# Altium footprint library Bourns.PcbLib: 5 footprints
Each footprint in its own frame and in the unit in brackets; x right, y up, seen from the top. Pads: shape width x height; smd on the part's side, far side on the other; paste and mask are expansions set on the pad; w line width, h text height; cw(c..) or ccw(c..) is an arc to the next point about the centre after c.
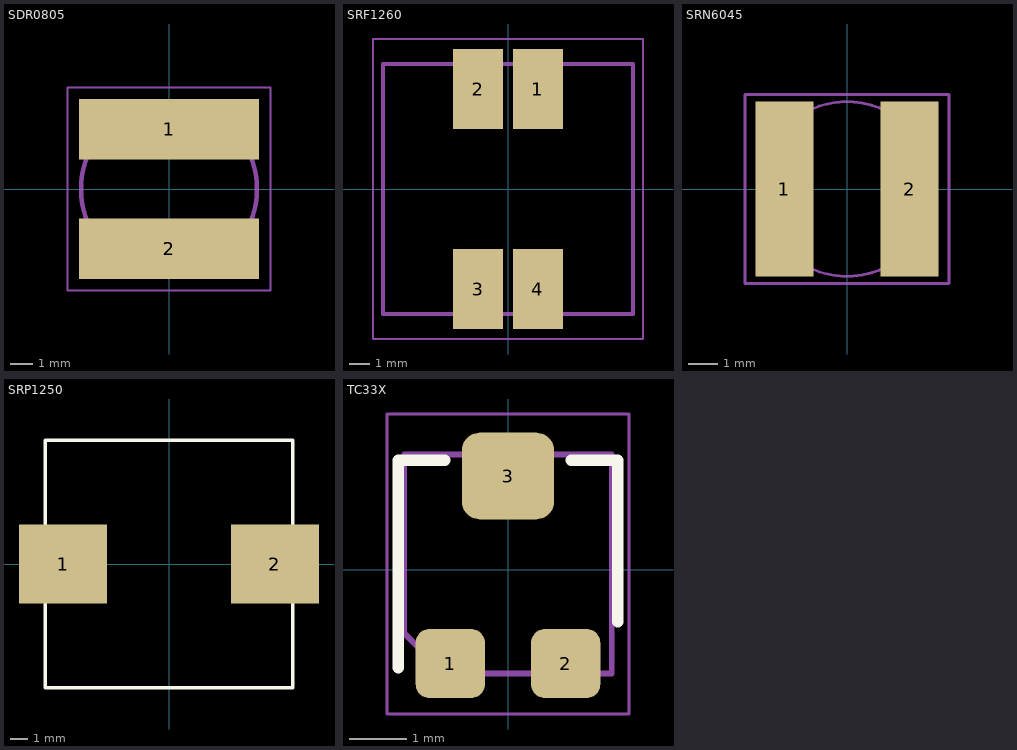
[diagram p0: the footprints below, top view; thin cyan lines are the x and y axes]

## SDR0805 [mm] "Surface-mount Inductor"
height 5.3
pads (2):
  rect 8x2.7 smd: 1(0,2.65) 2(0,-2.65)
Assembly:
  circle w0.2: c0,0 r3.9
Courtyard:
  lines w0.1: -4.5,-4.5 4.5,-4.5 4.5,4.5 -4.5,4.5 -4.5,-4.5
3D body: height 5.3, standoff 0, extent -3.869,-3.892 3.9,3.892

## SRF1260 [mm]
pads (4):
  rect 2.5x4 smd: 1(1.5,5) 2(-1.5,5) 3(-1.5,-5) 4(1.5,-5)
Assembly:
  lines w0.2: -6.25,-6.25 -6.25,6.25 6.25,6.25 6.25,-6.25 -6.25,-6.25
Courtyard:
  lines w0.1: -6.75,-7.5 -6.75,7.5 6.75,7.5 6.75,-7.5 -6.75,-7.5
3D body: height 6, standoff 0, extent -6.25,-6.25 6.25,6.25

## SRN6045 [mm] "Surface mount inductor, 6mm x 6mm"
height 4.5
pads (2):
  rect 2x6 smd: 1(-2.15,0) 2(2.15,0)
Assembly:
  circle w0.1: c0,0 r3
Courtyard:
  lines w0.1: -3.5,-3.25 3.5,-3.25 3.5,3.25 -3.5,3.25 -3.5,-3.25
3D body: height 4.5, standoff 0, extent -2.976,-2.994 3,2.994

## SRP1250 [mm] "Surface mount inductor"
height 5.9
pads (2):
  rect 5x4.5 smd mask+0: 1(-6,0) 2(6,0)
Top Overlay:
  lines w0.2: -7,-7 -7,7 7,7 7,-7 -7,-7
3D body: height 5.9, standoff 0, extent -7,-7 7,7

## TC33X [mm]
pads (3):
  rrect40% 1.2x1.2 smd mask+0.051: 1(-1,-1.625) 2(1,-1.625)
  rrect40% 1.6x1.5 smd mask+0.051: 3(0,1.625)
Top Overlay:
  lines w0.2: -1.9,-1.7 -1.9,1.9 -1.1,1.9 ; 1.1,1.9 1.9,1.9 1.9,-0.9
Assembly:
  lines w0.1: -1.8,-1.1 -1.1,-1.8 1.8,-1.8 1.8,2 -1.8,2 -1.8,-1.1
Courtyard:
  lines w0.05: -2.1,-2.5 -2.1,2.7 2.1,2.7 2.1,-2.5 -2.1,-2.5
3D body: height 1.2, standoff 0, extent -1.786,-1.671 1.8,1.922